# Altium integrated library Microcontroller-Related.IntLib: 4 symbols
Pins are listed as number, name and electrical type; pins without a type are passive.

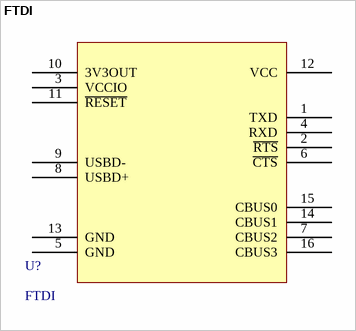
[diagram p0: symbol FTDI]

## FTDI
designator U?
USB-UART Converter; Manufacturer Part No.: FT230XS-U; Digi-Key Part No.: 768-1135-1-ND; ComponentLink1Description: Datasheet; ComponentLink1URL: http://www.ftdichip.com/Support/Documents/DataSheets/ICs/DS_FT230X.pdf
footprint FTDI_SSOP_16
pins: 1 TXD, 2 ~{RTS}, 3 VCCIO, 4 RXD, 5 GND, 6 ~{CTS}, 7 CBUS2, 8 USBD+, 9 USBD-, 10 3V3OUT, 11 ~{RESET}, 12 VCC, 13 GND, 14 CBUS1, 15 CBUS0, 16 CBUS3


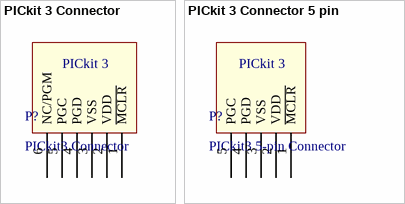
[diagram p1: symbols PICkit 3 Connector to PICkit 3 Connector 5 pin]

## PICkit 3 Connector
designator P?, comment PICkit3 Connector
PICkit 3 Connector
footprint Straight PICkit Connector
footprint Right Angle PICkit Connector
footprint PICkit probe pads (Pads for PICkit3 ICSP)
pins: 1 ~{MCLR}, 2 VDD, 3 VSS, 4 PGD, 5 PGC, 6 NC/PGM
text: PICkit 3

## PICkit 3 Connector 5 pin
designator P?, comment PICkit3 5-pin Connector
PICkit 3 Connector
footprint PICkit probe pads 5 (Pads for PICkit3 ICSP, no LVP)
footprint PICkit probe pads 5 no arrow (Pads for PICkit3 ICSP, no LVP)
pins: 1 ~{MCLR}, 2 VDD, 3 VSS, 4 PGD, 5 PGC
text: PICkit 3


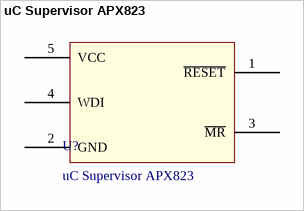
[diagram p2: symbol uC Supervisor APX823]

## uC Supervisor APX823
designator U?
Microprocessor Supervisory Circuit; Manufacturer Part No.: APX823-31W5G-7; Vthresh: 3.08V; Digi-Key Part No.: APX823-31W5GDICT-ND
footprint APX823 (Microprocessor Supervisory Circuit)
pins: 1 ~{RESET}, 2 GND, 3 ~{MR}, 4 WDI, 5 VCC